# Altium schematic symbol library Resolver Lib.SchLib: 1 symbol
Pins are listed as number, name and electrical type; pins without a type are passive.

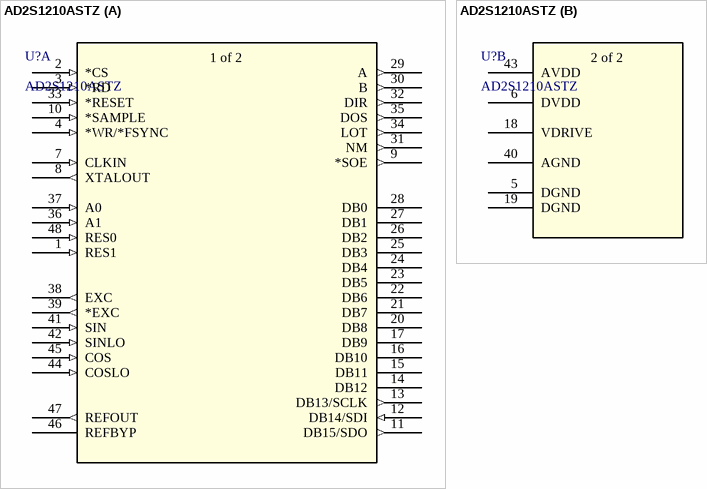
[diagram p0: symbol AD2S1210ASTZ]

## AD2S1210ASTZ
designator U?
No Description Available; SourceLibrary: Analog_2015-12-15; Built_By: EMA_UL_Team; Vendor: Analog Devices Inc; Manufacturer_Part_Number: AD2S1210ASTZ; Copyright: Copyright (C) 2018 Accelerated Designs. All rights reserved; RefDes: RefDes; Type: DEV
footprint ST_48_ADI
part A pins: 1 RES1 (in), 2 *CS (in), 3 *RD (in), 4 *WR/*FSYNC (in), 7 CLKIN (in), 8 XTALOUT (out), 9 *SOE (out), 10 *SAMPLE (in), 11 DB15/SDO (out), 12 DB14/SDI (in), 13 DB13/SCLK (out), 14 DB12, 15 DB11, 16 DB10, 17 DB9, 20 DB8, 21 DB7, 22 DB6, 23 DB5, 24 DB4, 25 DB3, 26 DB2, 27 DB1, 28 DB0, 29 A (out), 30 B (out), 31 NM (out), 32 DIR (out), 33 *RESET (in), 34 LOT (out), 35 DOS (out), 36 A1 (in), 37 A0 (in), 38 EXC (out), 39 *EXC (out), 41 SIN (in), 42 SINLO (in), 44 COSLO (in), 45 COS (in), 46 REFBYP, 47 REFOUT (out), 48 RES0 (in)
part B pins: 5 DGND, 6 DVDD (power), 18 VDRIVE (power), 19 DGND, 40 AGND, 43 AVDD
part A text: 1 of 2
part B text: 2 of 2